# Altium schematic symbol library Switches.SchLib: 45 symbols
Pins are listed as number, name and electrical type; pins without a type are passive.

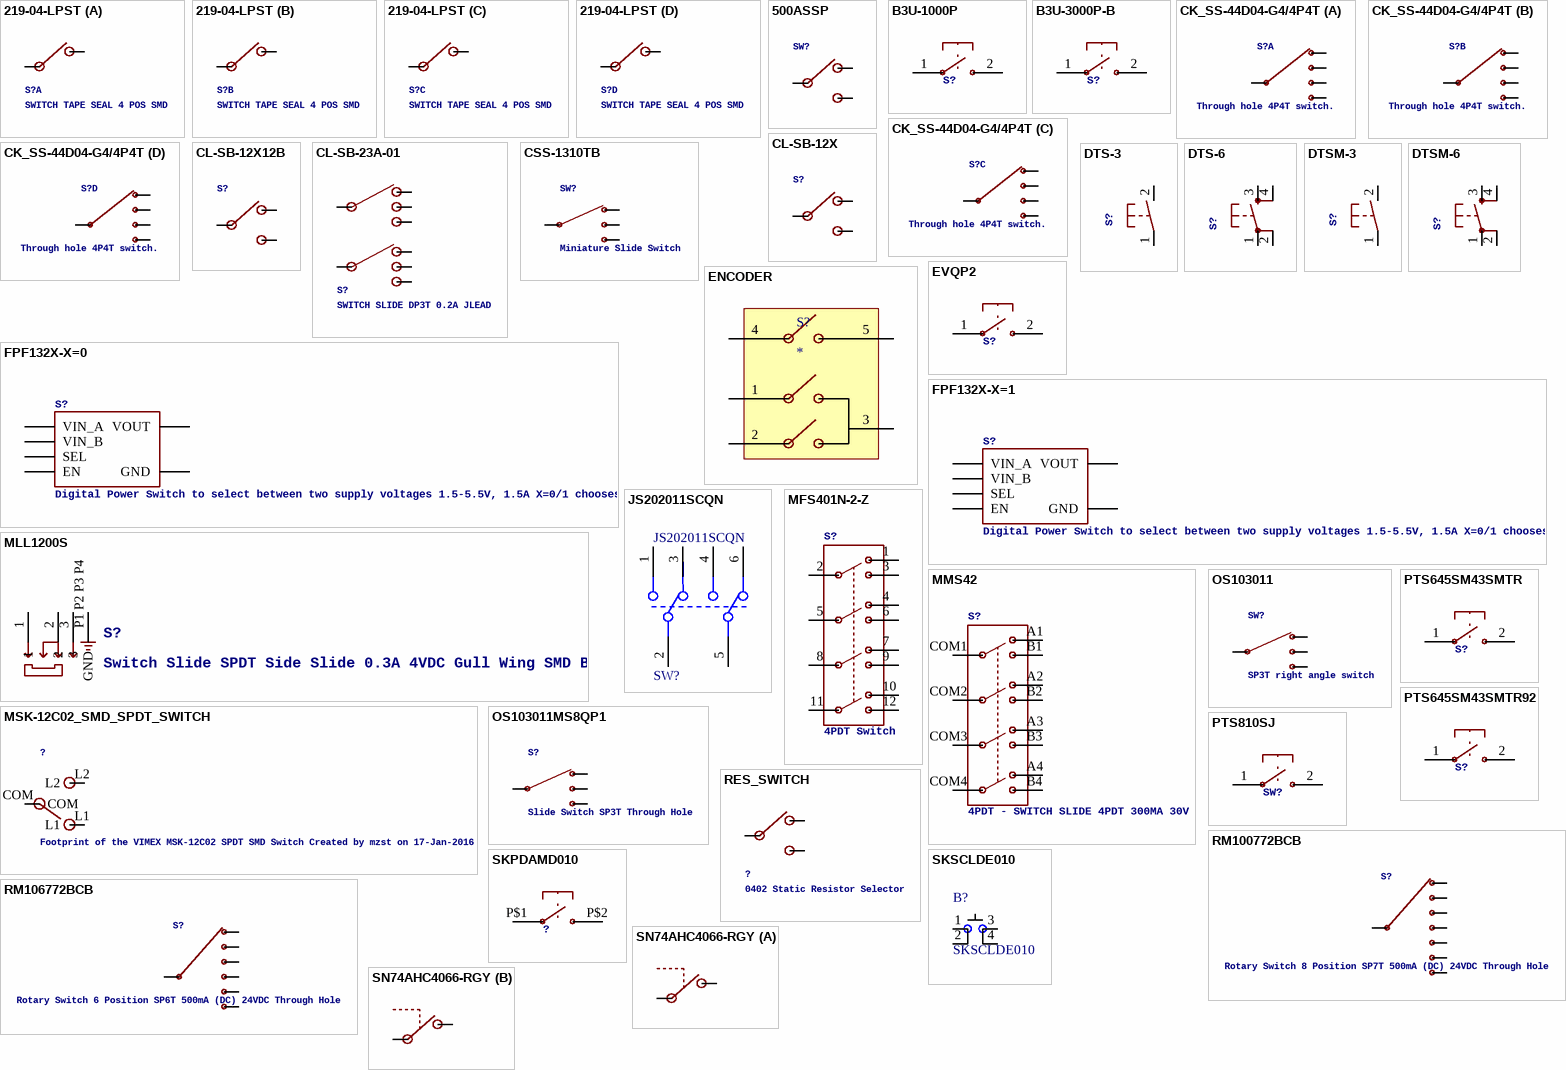
[diagram p0: symbols 219-04-LPST to SN74AHC4066-RGY]

## 219-04-LPST
designator S?, comment SWITCH TAPE SEAL 4 POS SMD
DIGIKEY: CT2194LPST-ND
footprint 219-04-LPST
part A pins: 1A A, 1B IN
part B pins: 2A A, 2B IN
part C pins: 3A A, 3B IN
part D pins: 4A A, 4B IN

## 500ASSP
designator SW?, comment High current slide switch  (value not drawn)
MANUFACTURER: EWSITCH; MPN: 500ASSP1M6QE; DIGIKEY: EG2483-ND
footprint 500ASSP
pins: 1, 2, 3

## B3U-1000P
designator S?, comment Switch  (value not drawn)
MANUFACTURER: Omron; MPN: B3U-1000P; DIGIKEY: SW1020CT-ND
footprint B3U-1000P
pins: 1 P$1, 2 P$2

## B3U-3000P-B
designator S?, comment Switch  (value not drawn)
DIGIKEY: SW1256CT-ND
footprint B3U-3000P-B
pins: 1 P$1, 2 P$2

## CK_SS-44D04-G4/4P4T
designator S?, comment Through hole 4P4T switch.
footprint CK_SS-44D04-G4/4P4T
part A pins: A1 A, A2 B, A3 C, A4 D, INA INPUT
part B pins: B1 A, B2 B, B3 C, B4 D, INB INPUT
part C pins: C1 A, C2 B, C3 C, C4 D, INC INPUT
part D pins: D1 A, D2 B, D3 C, D4 D, IND INPUT

## CL-SB-12X
designator S?, comment SWITCH SLIDE SPDT 0.2A JLEAD  (value not drawn)
DIGIKEY: 563-1314-1-ND
footprint CL-SB-12A
pins: 1, 2, 3

## CL-SB-12X12B
designator S?, comment SWITCH SLIDE SPDT 0.2A JLEAD  (value not drawn)
footprint CL-SB-12B
pins: 1, 2, 3

## CL-SB-23A-01
designator S?, comment SWITCH SLIDE DP3T 0.2A JLEAD
DIGIKEY: 563-1350-1-ND
footprint CL-SB-23A
pins: 1, 2, 3, 4, 5, 6, 7, 8

## CSS-1310TB
designator SW?, comment Miniature Slide Switch
DIGIKEY: 563-1095-1-ND
footprint JSM07011
pins: 1, 2, 3 C, 4 3

## DTS-3
designator S?
footprint DTS-3
pins: 1, 2

## DTS-6
designator S?
footprint DTS-6
pins: 1, 2, 3, 4

## DTSM-3
designator S?
footprint DTSM-3
pins: 1, 2

## DTSM-6
designator S?
footprint DTSM-6
pins: 1, 2, 3, 4

## ENCODER
designator S?
pins: 1, 1, 1, 1 A, 2, 2, 2, 2 B, 3 ROT_COMMON, 4 SW, 5 SW_GND

## EVQP2
designator S?, comment SWITCH TACTILE SPST-NO 0.02A 15V  (value not drawn)
DIGIKEY: P11084SCT-ND
footprint EVQP2
pins: 1 P1, 2 P2

## FPF132X-X=0
designator S?, comment Digital Power Switch to select between two supply voltages 1.5-5.5V, 1.5A X=0/1 chooses whether Vout floats or is grounded when EN is low
MANUFACTURER: Fairchild/ON Semiconductor; MPN: FPF1320UCX; DIGIKEY: FPF1320UCXCT-ND
footprint 6-UFBGA
pins: A1 EN, A2 VIN_A, B1 SEL, B2 VOUT, C1 GND, C2 VIN_B

## FPF132X-X=1
designator S?, comment Digital Power Switch to select between two supply voltages 1.5-5.5V, 1.5A X=0/1 chooses whether Vout floats or is grounded when EN is low
MANUFACTURER: Fairchild/ON Semiconductor; MPN: FPF1321UCX; DIGIKEY: FPF1321UCXTR-ND
footprint 6-UFBGA
pins: A1 EN, A2 VIN_A, B1 SEL, B2 VOUT, C1 GND, C2 VIN_B

## JS202011SCQN
designator SW?
SWITCH SLIDE DPDT 300MA 6V; Actuator Material: Nylon; Actuator Length: 2mm; Actuator Type: Standard; Contact Resistance: 70mR; Switch Function: On-On; Electrical Life: 5000Cycles; Voltage Rating (DC): 6V; Contact Current Rating: 300mA; Contact Plating: Silver; Throw Configuration: DPDT; REACH SVHC: No SVHC; Length: 9mm; Package Quantity: 1; Min Operating Temperature: -20°C; Contact Material: Copper Alloy; Switch Travel: 2mm; Radiation Hardening: No; Depth: 7.5mm; Packaging: Tape and Reel; Max Voltage Rating (DC): 6V; Housing Material: Nylon; Max Operating Temperature: 85°C; Current Rating: 300mA; Orientation: Vertical; Termination: Gull Wing; Flammability Rating: UL94 V-2; Lead Free: Lead Free; Mount: Surface Mount; Max Current Rating: 300mA
footprint FP-JS202011SCQN-MFG
pins: 1, 2, 3, 4, 5, 6

## MFS401N-2-Z
designator S?, comment 4PDT Switch
DIGIKEY: 563-1568-ND
footprint MFS401N-2-Z
pins: 1 1TA, 2 1P, 3 1TB, 4 2TA, 5 2P, 6 2TB, 7 3TA, 8 3P, 9 3TB, 10 4TA, 11 4P, 12 4TB

## MLL1200S
designator S?, comment Switch Slide SPDT Side Slide 0.3A 4VDC Gull Wing SMD Box
MF: TE Connectivity; MP: MLL1200S; Price: 1.54 USD; Package: None; Availability: Good
footprint SW_MLL1200S
pins: 1, 2, 3, P1 P2 P3 P4 GND (power)

## MMS42
designator S?, comment 4PDT - SWITCH SLIDE 4PDT 300MA 30V
MPN: MMS42; DIGIKEY: 679-1858-ND
footprint MMS42
pins: A1 1TA, A2 2TA, A3 3TA, A4 4TA, B1 1TB, B2 2TB, B3 3TB, B4 4TB, COM1 1P, COM2 2P, COM3 3P, COM4 4P

## MSK-12C02_SMD_SPDT_SWITCH
designator ?, comment Footprint of the VIMEX MSK-12C02 SPDT SMD Switch Created by mzst on 17-Jan-2016
footprint MSK-12C02
pins: COM, L1, L2

## OS103011
designator SW?, comment SP3T right angle switch
DIGIKEY: CKN9561-ND
footprint OS103011
pins: 1, 2 C, 3 2, 4 3

## OS103011MS8QP1
designator S?, comment Slide Switch SP3T Through Hole
DIGIKEY: CKN9543-ND
footprint OS102011MS8QP1
pins: 1, 2 C, 3 2, 4 3

## PTS645SM43SMTR
designator S?, comment SWITCH TACTILE SPST-NO 0.05A 12V  (value not drawn)
DIGIKEY: CKN9112CT-ND
footprint PTS645SM43SMTR
pins: 1 P1, 2 P2

## PTS645SM43SMTR92
designator S?, comment Tactile Switch SPST-NO Top Actuated Surface Mount  (value not drawn)
DIGIKEY: CKN9112CT-ND
footprint PTS645
pins: 1 P1, 2 P2

## PTS810SJ
designator SW?, comment PTS810SJ Push Button Switch  (value not drawn)
DIGIKEY: CKN10504CT-ND
footprint PTS810SJ
pins: 1 P1, 2 P2

## RES_SWITCH
designator ?, comment 0402 Static Resistor Selector
footprint RES_SWITCH
pins: A, B, C IN

## RM100772BCB
designator S?, comment Rotary Switch 8 Position SP7T 500mA (DC) 24VDC Through Hole
footprint RM-SWITCH
pins: 1 A, 2 B, 3 C, 4 D, 5 E, 6 F, 7 G, C INPUT

## RM106772BCB
designator S?, comment Rotary Switch 6 Position SP6T 500mA (DC) 24VDC Through Hole
DIGIKEY: CKN10703-ND
footprint RM-SWITCH
pins: 1 A, 2 B, 3 C, 4 D, 5 E, 6 F, C INPUT

## SKPDAMD010
designator ?
MOUSER: 688-SKPDAM
footprint SKPDAMD010
pins: P$1, P$2

## SKSCLDE010
designator B?
Switch Tactile N.O. SPST Button Gull Wing 0.05A 12VDC 1.6N SMD T/R; MF: ALPS; Price: 0.37 USD; Availability: Good; Package: None; MP: SKSCLDE010; Value: *
footprint SKSCLDE010
pins: 1 (io), 2 (io), 3 4 (io), 4 3 (io)

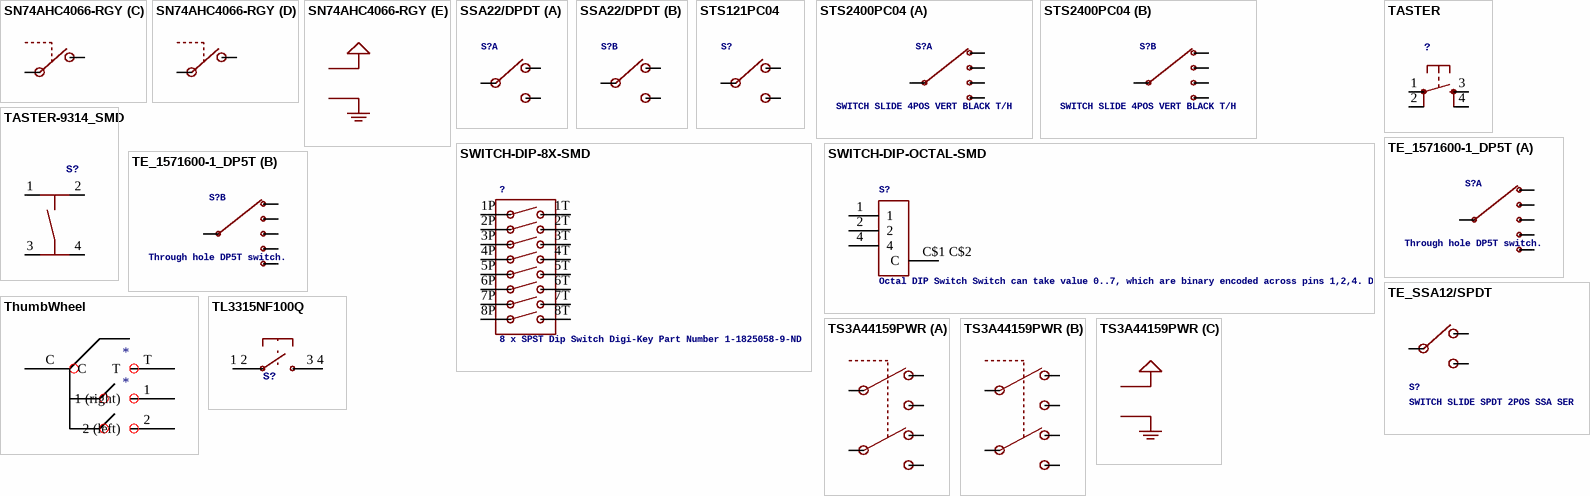
[diagram p1: symbols SN74AHC4066-RGY to TS3A44159PWR]

## SN74AHC4066-RGY
designator S?
DIGIKEY: 296-15258-1-ND
footprint S-PVQFN-N14-3.5MM
part A pins: 1 IN, 2 A, 13 CTRL
part B pins: 3 A, 4 IN, 5 CTRL
part C pins: 6 CTRL, 8 IN, 9 A
part D pins: 10 A, 11 IN, 12 CTRL
part E pins: 7 GND, 14 VCC

## SSA22/DPDT
designator S?, comment SW SLIDE DPDT 2POS SSA SER 30V  (value not drawn)
DIGIKEY: 450-1604-ND; MOUSER: 506-SSA22; NEWARK: 50F5561
footprint SSA22/DPDT
part A pins: A1 1, B1 3, COM1 2
part B pins: A2 1, B2 3, COM2 2

## STS121PC04
designator S?, comment Slide Switch SPDT Through Hole  (value not drawn)
DIGIKEY: 450-1609-ND
footprint STS121PC04
pins: 1, 2, 3

## STS2400PC04
designator S?, comment SWITCH SLIDE 4POS VERT BLACK T/H
DIGIKEY: 450-1619-ND
footprint STS2400PC04
part A pins: 1 A, 2 B, 3 INPUT, 4 C, 5 D
part B pins: 6 A, 7 B, 8 INPUT, 9 C, 10 D

## SWITCH-DIP-8X-SMD
designator ?, comment 8 x SPST Dip Switch Digi-Key Part Number 1-1825058-9-ND
DIGIKEY: 1-1825058-9-ND
footprint DIP_8X_SMD
pins: 1P, 1T, 2P, 2T, 3P, 3T, 4P, 4T, 5P, 5T, 6P, 6T, 7P, 7T, 8P, 8T

## SWITCH-DIP-OCTAL-SMD
designator S?, comment Octal DIP Switch Switch can take value 0..7, which are binary encoded across pins 1,2,4. Digi-Key Part Number GH7366-ND
DIGIKEY: GH7366-ND
footprint OCTAL_SMD
pins: 1, 2, 4, C$1 C$2 C

## TASTER
designator ?
footprint TASTER
pins: 1 P, 2 P1, 3 S, 4 S1

## TASTER-9314_SMD
designator S?
footprint TASTER-9314_SMD
pins: 1, 2, 3, 4

## TE_1571600-1_DP5T
designator S?, comment Through hole DP5T switch.
DIGIKEY: A112404-ND
footprint TE_1571600-1
part A pins: 1A A, 2A B, 3A C, 4A INPUT, 5A D, 6A E
part B pins: 1B A, 2B B, 3B C, 4B INPUT, 5B D, 6B E

## TE_SSA12/SPDT
designator S?, comment SWITCH SLIDE SPDT 2POS SSA SER
DIGIKEY: 450-1602-ND
footprint TE_SSA12/SPDT
pins: 1 A, 2 B, IN

## ThumbWheel
designator *
footprint ThumbWheel
pins: 1 1 (right), 2 2 (left), C, T

## TL3315NF100Q
designator S?, comment SWITCH TACTILE SPST-NO 0.05A 15V  (value not drawn)
DIGIKEY: EG4620CT-ND
footprint TL3315NF100Q
pins: 1 2 P$1, 3 4 P$2

## TS3A44159PWR
designator S?
DIGIKEY: 296-21915-1-ND
footprint R-PDSO-G16
part A pins: 1 B0, 2 B, 3 B1, 13 A0, 14 A, 15 A1, 16 CTRL
part B pins: 5 A0, 6 A, 7 A1, 8 CTRL, 9 B0, 10 B, 11 B1
part C pins: 4 GND, 12 VCC